# EAGLE library part FLYING_JALAPENO (library Testing)
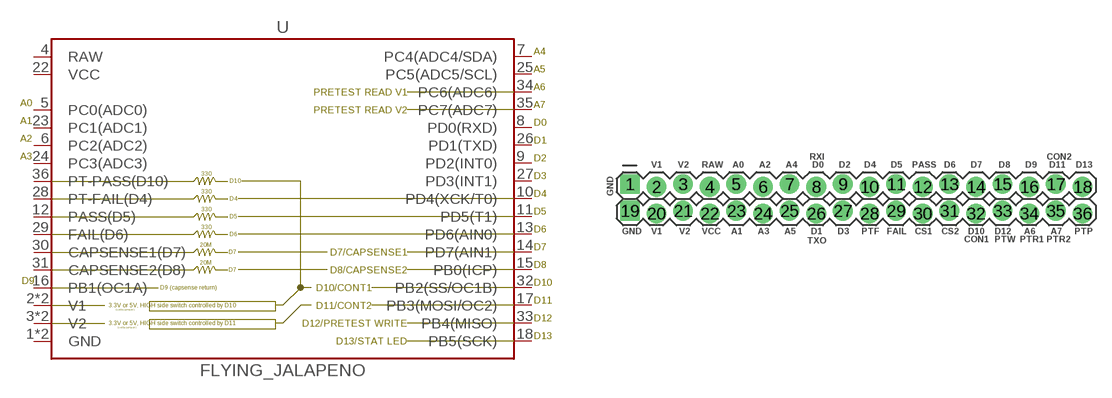
[diagram p0: symbol with the pads of FLYING_JALAPENO; footprint FLYING_JALAPENO]

Designator prefix -

## FLYING_JALAPENO  [FLYING_JALAPENO]
1  GND
2  V1
3  V2
4  RAW
5  PC0(ADC0)
6  PC2(ADC2)
7  PC4(ADC4/SDA)
8  PD0(RXD)
9  PD2(INT0)
10  PD4(XCK/T0)
11  PD5(T1)
12  PASS(D5)
13  PD6(AIN0)
14  PD7(AIN1)
15  PB0(ICP)
16  PB1(OC1A)
17  PB3(MOSI/OC2)
18  PB5(SCK)
19  GND
20  V1
21  V2
22  VCC
23  PC1(ADC1)
24  PC3(ADC3)
25  PC5(ADC5/SCL)
26  PD1(TXD)
27  PD3(INT1)
28  PT-FAIL(D4)
29  FAIL(D6)
30  CAPSENSE1(D7)
31  CAPSENSE2(D8)
32  PB2(SS/OC1B)
33  PB4(MISO)
34  PC6(ADC6)
35  PC7(ADC7)
36  PT-PASS(D10)

## Footprint FLYING_JALAPENO (pad centres in mm)
drill 1.016 pad 1.88 square: 1 0,2.667; 19 0,0.127
drill 1.016 pad 1.88: 2 2.54,2.413; 3 5.08,2.667; 4 7.62,2.413; 5 10.16,2.667; 6 12.7,2.413; 7 15.24,2.667; 8 17.78,2.413; 9 20.32,2.667; 10 22.86,2.413; 11 25.4,2.667; 12 27.94,2.413; 13 30.48,2.667; 14 33.02,2.413; 15 35.56,2.667; 16 38.1,2.413; 17 40.64,2.667; 18 43.18,2.413; 20 2.54,-0.127; 21 5.08,0.127; 22 7.62,-0.127; 23 10.16,0.127; 24 12.7,-0.127; 25 15.24,0.127; 26 17.78,-0.127; 27 20.32,0.127; 28 22.86,-0.127; 29 25.4,0.127; 30 27.94,-0.127; 31 30.48,0.127; 32 33.02,-0.127; 33 35.56,0.127; 34 38.1,-0.127; 35 40.64,0.127; 36 43.18,-0.127